# EAGLE library part M25P32 (library micron)
Flash Memory: 32 Mb 3V Nor Serial Flash Memory
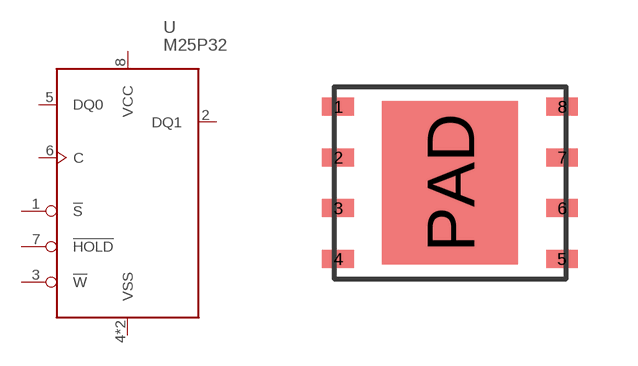
[diagram p0: symbol with the pads of VFQFPN8(MLP8)6X5; footprint VFQFPN8(MLP8)6X5]

Designator prefix U

## M25P32 (DIGIKEY: M25P32-VME6G-ND)  [VFQFPN8(MLP8)6X5]
1  !S
2  DQ1
3  !W
4  VSS
5  DQ0
6  C
7  !HOLD
8  VCC
PAD  VSS

## Footprint VFQFPN8(MLP8)6X5 (pad centres in mm)
smd 0.8 x 0.45: 1 -2.8,1.905; 2 -2.8,0.635; 3 -2.8,-0.635; 4 -2.8,-1.905; 5 2.8,-1.905; 6 2.8,-0.635; 7 2.8,0.635; 8 2.8,1.905
smd 3.4 x 4.1: PAD 0,0